# Altium schematic symbol library ECU.SchLib: 16 symbols
Pins are listed as number, name and electrical type; pins without a type are passive.

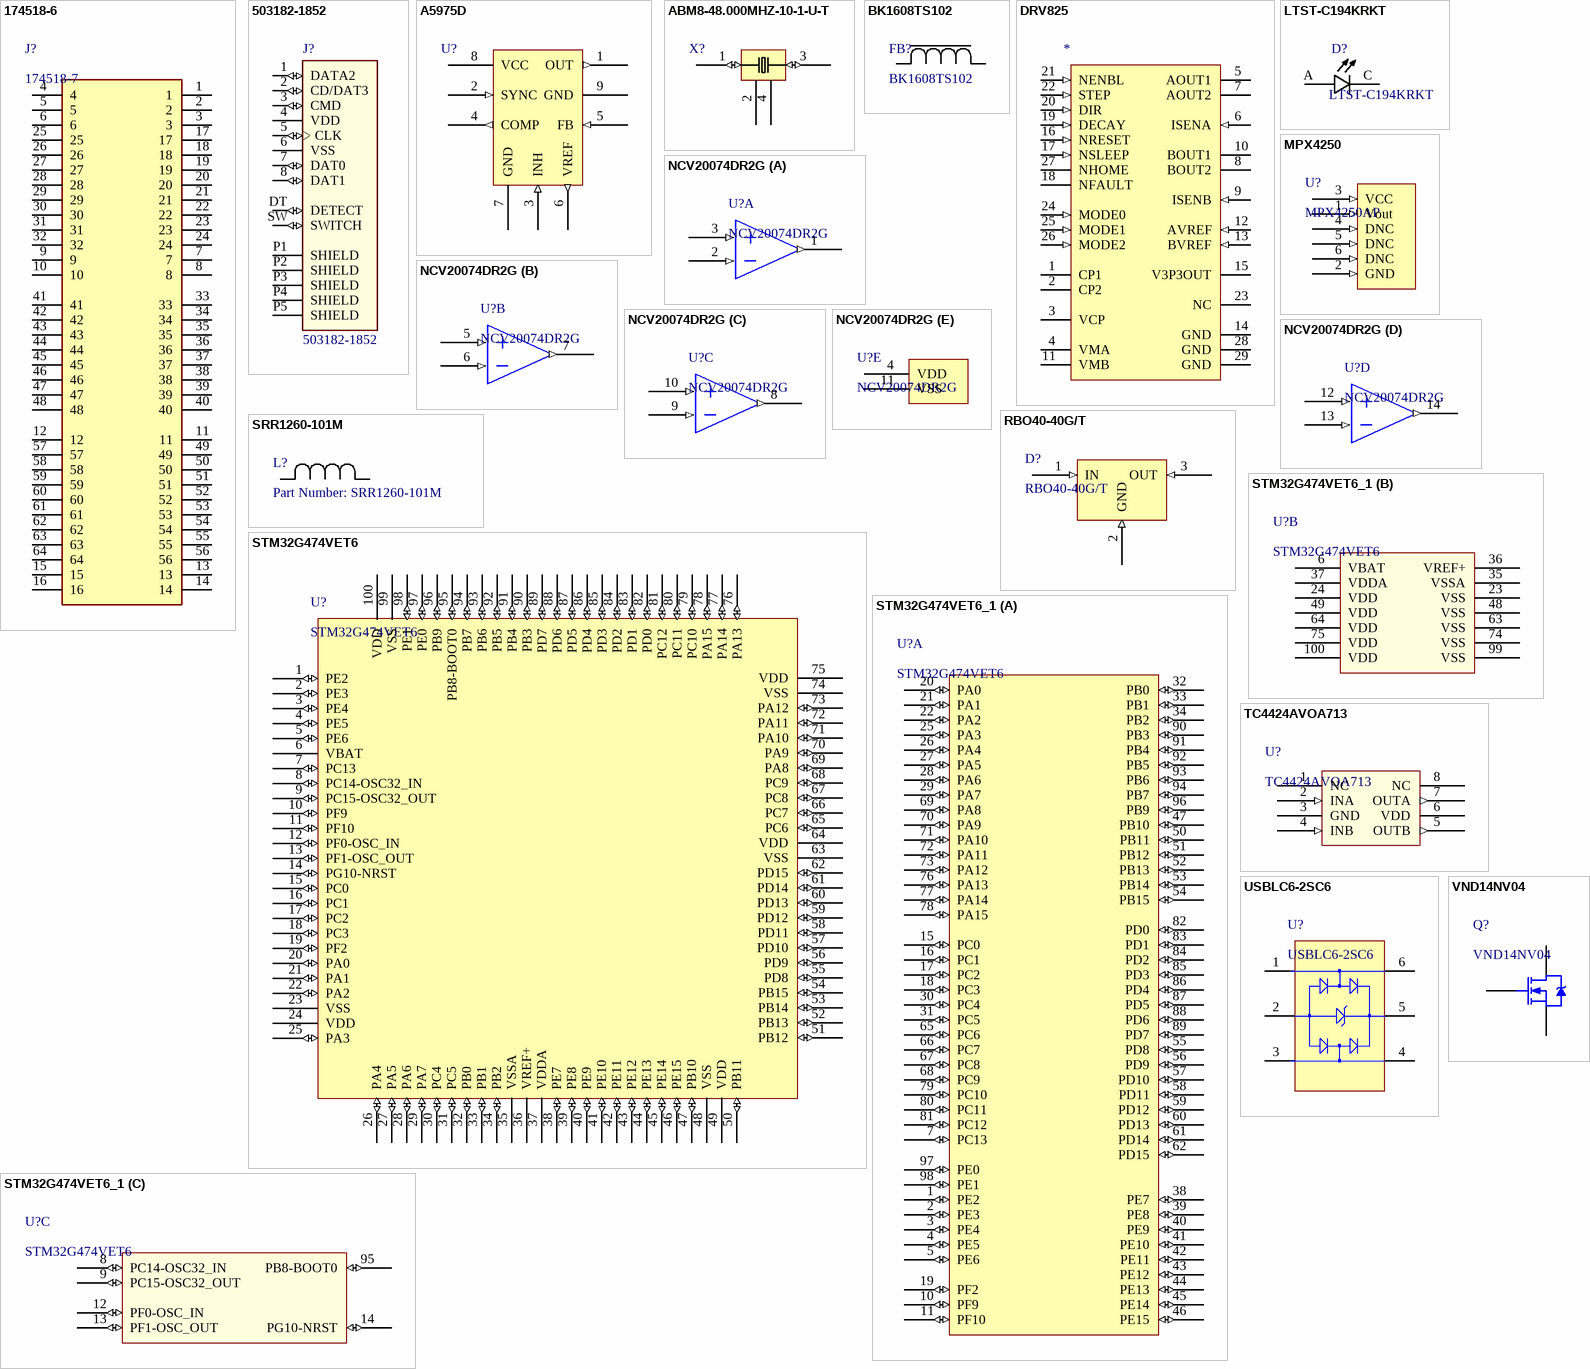
[diagram p0: symbols 174518-6 to VND14NV04]

## 174518-6
designator J?, comment 174518-7
Manufacturer_Name: TE Connectivity; Manufacturer_Part_Number: 176122-6; Datasheet Link: https://www.te.com/commerce/DocumentDelivery/DDEController?Action=showdoc&DocId=Customer+Drawing%7F176122%7FG4%7Fpdf%7FJapanese%7FJPN_CD_176122_G4.pdf%7F176122-6; Height: 22.2mm; Mouser Part Number: 571-176122-6; Mouser Price/Stock: https://www.mouser.com/Search/Refine.aspx?Keyword=571-176122-6
footprint 174518-7
pins: 1, 2, 3, 4, 5, 6, 7, 8, 9, 10, 11, 12, 13, 14, 15, 16, 17, 18, 19, 20, 21, 22, 23, 24, 25, 26, 27, 28, 29, 30, 31, 32, 33, 34, 35, 36, 37, 38, 39, 40, 41, 42, 43, 44, 45, 46, 47, 48, 49, 50, 51, 52, 53, 54, 55, 56, 57, 58, 59, 60, 61, 62, 63, 64

## 503182-1852
designator J?
10 _8 + 2_ Position Card Connector microSDâ„¢ Surface Mount, Right Angle Gold; MF: Molex; MP: 5031821852; Digi-Key_Part_Number: WM12834CT-ND; Digi-Key_Purchase_URL: https://www.digikey.com/product-detail/en/molex/5031821852/WM12834CT-ND/5823232?utm_source=snapeda&utm_medium=aggregator&utm_campaign=symbol; Package: None; SnapEDA_Link: https://www.snapeda.com/parts/5031821852/Molex/view-part/46835/?ref=snap; Value: *
footprint *MOLEX_503182-1852_503182-1852(Primary)
pins: 1 DATA2 (io), 2 CD/DAT3 (io), 3 CMD (io), 4 VDD (power), 5 CLK (io), 6 VSS (power), 7 DAT0 (io), 8 DAT1 (io), DT DETECT (io), P1 SHIELD, P2 SHIELD, P3 SHIELD, P4 SHIELD, P5 SHIELD, SW SWITCH (io)

## A5975D
designator U?  (value not drawn)
The A5975D is a step-down monolithic power / switching regulator with a minimum switch current / limit of 3.75 A, it is therefore able to deliver up to 3 / A DC current to the load depending on the / application conditions. The output voltage can be / set from 1.235 V to 35 V. The high current level is / also achieved thanks to a HSOP8 package with / exposed frame, that allows to reduce the RTHJ-A / down to approximately 40 °C/W. The device uses / an internal P-channel DMOS transistor (with a / typical RDS(on) of 250 mΩ) as switching element / to minimize the size of the external components. / An internal oscillator fixes the switching frequency / at 250 kHz. Having a minimum input voltage of / only 4 V, it fits automotive applications requiring / device operation even in cold crank conditions. / Pulse-by-pulse current limit with the internal / frequency modulation offers an effective constant / current short-circuit protection.; ComponentLink1Description: STMicro; ComponentLink1URL: https://www.st.com/en/power-management/a5975d.html#resource
footprint A5975D_Medium_Density (SOP, 8-Leads, Body 4.90x4.00mm, Pitch 1.27mm, Thermal Pad 3.20x2.51mm, IPC Medium Density)
pins: 1 OUT (out) "Regulator output.", 2 SYNC (in) "Master/slave synchronization.", 3 INH (in) "A logical signal (active high) disables the device. If INH is not used, the pin must be grounded. When it is open an internal pull-up disables the device.", 4 COMP (out) "E/A output for frequency compensation.", 5 FB (in) "A logical signal (active high) disables the device. If INH is not used, the pin must be grounded. When it is open an internal pull-up disables the device.", 6 VREF (out) "3.3 V VREF. No cap is requested for stability.", 7 GND (power) "Ground.", 8 VCC (power) "Unregulated DC input voltage.", 9 GND (power) "Bottom Thermal Pad"

## ABM8-48.000MHZ-10-1-U-T
designator X?  (value not drawn)
footprint ABM8-48.000MHZ-10-1-U-T
pins: 1 (io), 2 (power), 3 (io), 4 (power)

## BK1608TS102
designator FB?
footprint BK1608TS102-T (Chip Inductor, 2-Leads, Body 1.60x0.80mm, IPC Medium Density)
pins: 1, 2

## DRV825
designator *  (value not drawn)
footprint DRV8825
pins: 1 CP1 "Charge pump flying capacitor", 2 CP2 "Charge pump flying capacitor", 3 VCP "High-side gate drive voltage", 4 VMA (power) "Bridge A power supply", 5 AOUT1 (hiz) "Bridge A output 1", 6 ISENA (in) "Bridge A ground / Isense", 7 AOUT2 (hiz) "Bridge A output 2", 8 BOUT2 (hiz) "Bridge B output 2", 9 ISENB (in) "Bridge B ground / Isense", 10 BOUT1 (hiz) "Bridge B output 1", 11 VMB (power) "Bridge B power supply", 12 AVREF (in) "Bridge A current set reference input", 13 BVREF (in) "Bridge B current set reference input", 14 GND (power) "Device ground", 15 V3P3OUT (power) "3.3-V regulator output", 16 NRESET (in) "Reset input", 17 NSLEEP (in) "Sleep mode input", 18 NFAULT (oc) "Fault", 19 DECAY (in) "Decay mode", 20 DIR (in) "Direction input", 21 NENBL (in) "Bridge enable", 22 STEP (in) "Step input", 23 NC, 24 MODE0 (in) "Microstep mode 0", 25 MODE1 (in) "Microstep mode 1", 26 MODE2 (in) "Microstep mode 2", 27 NHOME (oc) "Home position", 28 GND (power) "Device ground", 29 GND (power)

## LTST-C194KRKT
designator D?
Red 631nm LED Indication - Discrete 2V 0603 _1608 Metric_; MF: Lite-On Inc.; Digi-Key_Purchase_URL: https://www.digikey.com/product-detail/en/lite-on-inc/LTST-C194KRKT/160-1835-1-ND/2356232?utm_source=snapeda&utm_medium=aggregator&utm_campaign=symbol; MP: LTST-C194KRKT; Package: 0603 Lite-On; SnapEDA_Link: https://www.snapeda.com/parts/LTST-C194KRKT/Lite-On%20Inc./view-part/370565/?ref=snap; Digi-Key_Part_Number: 160-1835-1-ND; Value: *
footprint LEDC1608X35N_LTST-C194KRKT
pins: A, C

## MPX4250
designator U?, comment MPX4250AP
footprint MPX4250AP
pins: 1 Vout (in), 2 GND (in), 3 VCC (in), 4 DNC (in), 5 DNC (in), 6 DNC (in)

## NCV20074DR2G
designator U?
footprint NCV20074DR2G
part A pins: 1 OUT1 (out), 2 IN1- (in), 3 IN1+ (in)
part B pins: 5 IN2+ (in), 6 IN2- (in), 7 OUT2 (out)
part C pins: 8 OUT3 (out), 9 IN3- (in), 10 IN3+ (in)
part D pins: 12 IN4+ (in), 13 IN4- (in), 14 OUT4 (out)
part E pins: 4 VDD (power), 11 VSS (power)

## RBO40-40G/T
designator D?
Designed to protect against battery reversal andload dump overvoltages in automotive applica-tions, this monolithic component offers multiplefunctions in the same package.
footprint D2PAK-L
pins: 1 IN (in), 2 GND (in), 3 OUT (in)

## SRR1260-101M
designator L?, comment Part Number: SRR1260-101M
SRR1260-101M; Vendor: Bourns Electronics; Built_By: EMA_UL_Team; Type: DEV; Manufacturer_Part_Number: SRR1260-101M; Copyright: Copyright (C) 2018 Accelerated Designs. All rights reserved; RefDes: RefDes; Value: Value
footprint INDP125125X65N (Precision Wire Wound Inductor, 2-Leads, Body 12.50x12.50mm, IPC Medium Density)
pins: 1, 2

## STM32G474VET6
designator U?
footprint STM32G474VET6 (TSQFP, 100-Leads, Body 14.00x14.00mm, Pitch 0.50mm, IPC Medium Density)
pins: 1 PE2 (io), 2 PE3 (io), 3 PE4 (io), 4 PE5 (io), 5 PE6 (io), 6 VBAT (power), 7 PC13 (io), 8 PC14-OSC32_IN (io), 9 PC15-OSC32_OUT (io), 10 PF9 (io), 11 PF10 (io), 12 PF0-OSC_IN (io), 13 PF1-OSC_OUT (io), 14 PG10-NRST (io), 15 PC0 (io), 16 PC1 (io), 17 PC2 (io), 18 PC3 (io), 19 PF2 (io), 20 PA0 (io), 21 PA1 (io), 22 PA2 (io), 23 VSS (power), 24 VDD (power), 25 PA3 (io), 26 PA4 (io), 27 PA5 (io), 28 PA6 (io), 29 PA7 (io), 30 PC4 (io), 31 PC5 (io), 32 PB0 (io), 33 PB1 (io), 34 PB2 (io), 35 VSSA (power), 36 VREF+ (power), 37 VDDA (power), 38 PE7 (io), 39 PE8 (io), 40 PE9 (io), 41 PE10 (io), 42 PE11 (io), 43 PE12 (io), 44 PE13 (io), 45 PE14 (io), 46 PE15 (io), 47 PB10 (io), 48 VSS (power), 49 VDD (power), 50 PB11 (io), 51 PB12 (io), 52 PB13 (io), 53 PB14 (io), 54 PB15 (io), 55 PD8 (io), 56 PD9 (io), 57 PD10 (io), 58 PD11 (io), 59 PD12 (io), 60 PD13 (io), 61 PD14 (io), 62 PD15 (io), 63 VSS (power), 64 VDD (power), 65 PC6 (io), 66 PC7 (io), 67 PC8 (io), 68 PC9 (io), 69 PA8 (io), 70 PA9 (io), 71 PA10 (io), 72 PA11 (io), 73 PA12 (io), 74 VSS (power), 75 VDD (power), 76 PA13 (io), 77 PA14 (io), 78 PA15 (io), 79 PC10 (io), 80 PC11 (io), 81 PC12 (io), 82 PD0 (io), 83 PD1 (io), 84 PD2 (io), 85 PD3 (io), 86 PD4 (io), 87 PD5 (io), 88 PD6 (io), 89 PD7 (io), 90 PB3 (io), 91 PB4 (io), 92 PB5 (io), 93 PB6 (io), 94 PB7 (io), 95 PB8-BOOT0 (io), 96 PB9 (io), 97 PE0 (io), 98 PE1 (io), 99 VSS (power), 100 VDD (power)

## STM32G474VET6_1
designator U?, comment STM32G474VET6
footprint STM32G474VET6 (TSQFP, 100-Leads, Body 14.00x14.00mm, Pitch 0.50mm, IPC Medium Density)
part A pins: 1 PE2 (io), 2 PE3 (io), 3 PE4 (io), 4 PE5 (io), 5 PE6 (io), 7 PC13 (io), 10 PF9 (io), 11 PF10 (io), 15 PC0 (io), 16 PC1 (io), 17 PC2 (io), 18 PC3 (io), 19 PF2 (io), 20 PA0 (io), 21 PA1 (io), 22 PA2 (io), 25 PA3 (io), 26 PA4 (io), 27 PA5 (io), 28 PA6 (io), 29 PA7 (io), 30 PC4 (io), 31 PC5 (io), 32 PB0 (io), 33 PB1 (io), 34 PB2 (io), 38 PE7 (io), 39 PE8 (io), 40 PE9 (io), 41 PE10 (io), 42 PE11 (io), 43 PE12 (io), 44 PE13 (io), 45 PE14 (io), 46 PE15 (io), 47 PB10 (io), 50 PB11 (io), 51 PB12 (io), 52 PB13 (io), 53 PB14 (io), 54 PB15 (io), 55 PD8 (io), 56 PD9 (io), 57 PD10 (io), 58 PD11 (io), 59 PD12 (io), 60 PD13 (io), 61 PD14 (io), 62 PD15 (io), 65 PC6 (io), 66 PC7 (io), 67 PC8 (io), 68 PC9 (io), 69 PA8 (io), 70 PA9 (io), 71 PA10 (io), 72 PA11 (io), 73 PA12 (io), 76 PA13 (io), 77 PA14 (io), 78 PA15 (io), 79 PC10 (io), 80 PC11 (io), 81 PC12 (io), 82 PD0 (io), 83 PD1 (io), 84 PD2 (io), 85 PD3 (io), 86 PD4 (io), 87 PD5 (io), 88 PD6 (io), 89 PD7 (io), 90 PB3 (io), 91 PB4 (io), 92 PB5 (io), 93 PB6 (io), 94 PB7 (io), 96 PB9 (io), 97 PE0 (io), 98 PE1 (io)
part B pins: 6 VBAT (power), 23 VSS (power), 24 VDD (power), 35 VSSA (power), 36 VREF+ (power), 37 VDDA (power), 48 VSS (power), 49 VDD (power), 63 VSS (power), 64 VDD (power), 74 VSS (power), 75 VDD (power), 99 VSS (power), 100 VDD (power)
part C pins: 8 PC14-OSC32_IN (io), 9 PC15-OSC32_OUT (io), 12 PF0-OSC_IN (io), 13 PF1-OSC_OUT (io), 14 PG10-NRST (io), 95 PB8-BOOT0 (io)

## TC4424AVOA713
designator U?
footprint TC4424AVOA713 (SOIC, 8-Leads, Body 4.90x3.90mm, Pitch 1.27mm, IPC Medium Density)
pins: 1 NC (hiz), 2 INA (in), 3 GND (power), 4 INB (in), 5 OUTB (out), 6 VDD (power), 7 OUTA (out), 8 NC (hiz)

## USBLC6-2SC6
designator U?
footprint USBLC6-2SC6 (SOT23, 6-Leads, Body 3.05x1.75mm, Pitch 0.95mm)
pins: 1 I/O 1, 2 GND, 3 I/O 2, 4 I/O 3, 5 VBUS, 6 I/O 4

## VND14NV04
designator Q?
footprint VND14NV04 (D-PAK, 3-Pads, Body 6.20x6.66mm (max), IPC Medium Density)
pins: 1 G, 3 S, 4 D